# Altium schematic symbol library Embedded.SchLib: 20 symbols
Pins are listed as number, name and electrical type; pins without a type are passive.

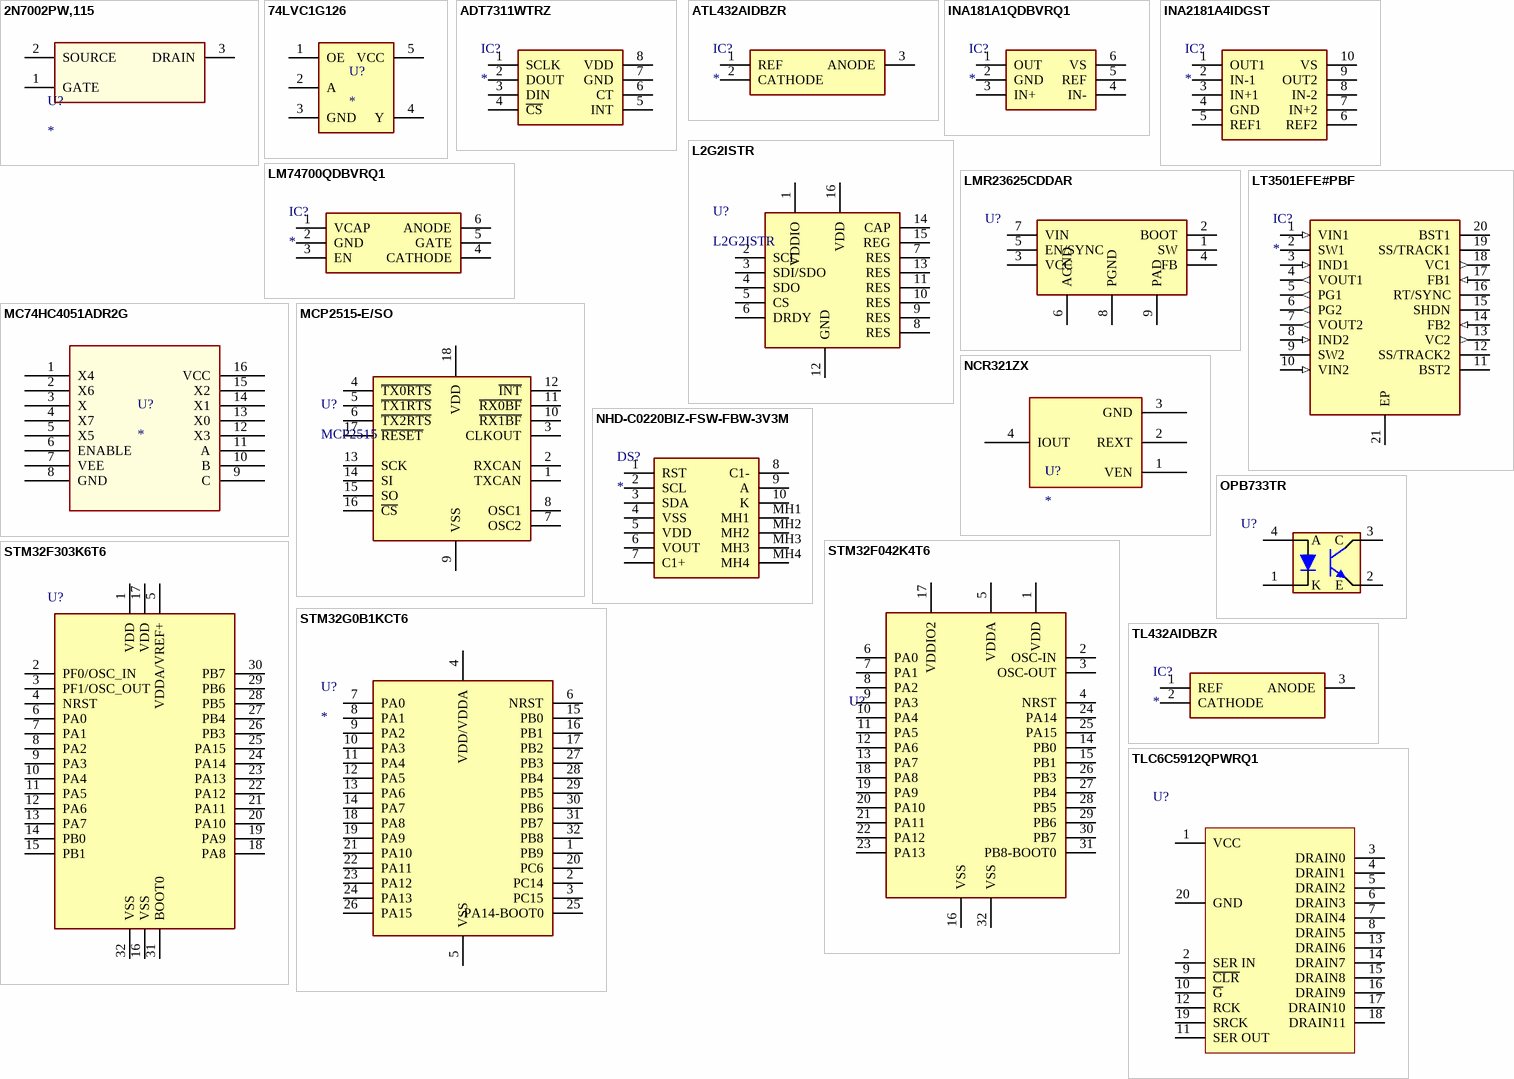
[diagram p0: symbols 2N7002PW,115 to TLC6C5912QPWRQ1]

## 2N7002PW,115
designator U?
N-Channel 60V 310mA (Ta) 260mW (Ta) Surface Mount SOT-323; MP: 2N7002PW,115; MF: Nexperia USA; SnapEDA_Link: https://www.snapeda.com/parts/2N7002PW,115/Nexperia%20USA%20Inc./view-part/2152859/?ref=snap; Value: *; Digi-Key_Part_Number: 1727-4793-1-ND; Package: SOT-323 Nexperia; ComponentLink1Description: Manufacturer name; ComponentLink1URL: *Nexperia USA Inc.; ComponentLink2Description: Manufacturer part number; ComponentLink2URL: PMF370XN,115; ComponentLink3Description: Supplier name; ComponentLink3URL: Digikey; ComponentLink4Description: Supplier part #; ComponentLink4URL: 1727-5422-2-ND
footprint SOT65P210X110-3N (MOSFET N-CH 60V 310MA SOT323)
pins: 1 GATE, 2 SOURCE, 3 DRAIN

## 74LVC1G126
designator U?
Buffer, Non-Inverting 1 Element 1 Bit per Element 3-State Output SC-74A; Manufacturer: Nexperia USA Inc.; Manufacturer Part Number: 74LVC1G126GV,125; Supplier: Digikey; Supplier Part Number: 1727-6066-1-ND; ComponentLink1Description: Datasheet; ComponentLink1URL: https://assets.nexperia.com/documents/data-sheet/74LVC1G126.pdf
footprint 74LVC1G126
pins: 1 OE, 2 A, 3 GND, 4 Y, 5 VCC

## ADT7311WTRZ
designator IC?
Integrated Circuit; Manufacturer_Name: Analog Devices; Manufacturer_Part_Number: ADT7311WTRZ; Datasheet Link: https://componentsearchengine.com/Datasheets/2/ADT7311WTRZ.pdf; Height: 1.75mm; Mouser Part Number: 584-ADT7311WTRZ; Mouser Price/Stock: https://www.mouser.com/Search/Refine.aspx?Keyword=584-ADT7311WTRZ
footprint SOIC127P600X175-8N
pins: 1 SCLK, 2 DOUT, 3 DIN, 4 ~{CS}, 5 INT, 6 CT, 7 GND, 8 VDD

## ATL432AIDBZR
designator IC?
Integrated Circuit; Manufacturer_Name: Texas Instruments; Manufacturer_Part_Number: ATL432AIDBZR; Datasheet Link: https://www.ti.com/lit/gpn/ATL432; Height: 1.12mm; Arrow Part Number: ATL432AIDBZR; Mouser Part Number: 595-ATL432AIDBZR; Mouser Price/Stock: https://www.mouser.co.uk/ProductDetail/Texas-Instruments/ATL432AIDBZR?qs=yajEpaT76uTSfuUtbT09pw%3D%3D
footprint SOT95P237X112-3N
pins: 1 REF, 2 CATHODE, 3 ANODE

## INA181A1QDBVRQ1
designator IC?
Integrated Circuit; Manufacturer_Name: Texas Instruments; Manufacturer_Part_Number: INA181A1QDBVRQ1; Datasheet Link: http://www.ti.com/lit/gpn/INA181-Q1; Height: 1.45mm; Arrow Part Number: INA181A1QDBVRQ1; Arrow Price/Stock: https://www.arrow.com/en/products/ina181a1qdbvrq1/texas-instruments; Mouser Part Number: 595-INA181A1QDBVRQ1; Mouser Price/Stock: https://www.mouser.co.uk/ProductDetail/Texas-Instruments/INA181A1QDBVRQ1?qs=EBDBlbfErPx7yYU5sEtaJQ%3D%3D
footprint SOT95P280X145-6N
pins: 1 OUT, 2 GND, 3 IN+, 4 IN-, 5 REF, 6 VS

## INA2181A4IDGST
designator IC?
Integrated Circuit; Manufacturer_Name: Texas Instruments; Manufacturer_Part_Number: INA2181A4IDGST; Datasheet Link: http://www.ti.com/lit/ds/symlink/ina2181.pdf; Height: 1.1mm; Arrow Part Number: INA2181A4IDGST; Arrow Price/Stock: https://www.arrow.com/en/products/ina2181a4idgst/texas-instruments; Mouser Part Number: 595-INA2181A4IDGST; Mouser Price/Stock: https://www.mouser.co.uk/ProductDetail/Texas-Instruments/INA2181A4IDGST?qs=j%252B1pi9TdxUbPFaAVw1%2FxVg%3D%3D
footprint SOP50P490X110-10N
pins: 1 OUT1, 2 IN-1, 3 IN+1, 4 GND, 5 REF1, 6 REF2, 7 IN+2, 8 IN-2, 9 OUT2, 10 VS

## L2G2ISTR
designator U?
MEMS MOTION SENSOR 2AXIS 16WFLGA; Manufacturer: ST; Manufacturer Part Number: L2G2ISTR; Supplier Part Number: 497-15702-1-ND; Supplier: Digikey; ComponentLink1Description: Datasheet; ComponentLink1URL: https://www.st.com/content/ccc/resource/technical/document/datasheet/6f/7d/9c/da/78/f2/42/1b/DM00150082.pdf/files/DM00150082.pdf/jcr:content/translations/en.DM00150082.pdf
footprint LGA16 - L2G2ISTR (LGA16 (2.3x2.3))
pins: 1 VDDIO, 2 SCL, 3 SDI/SDO, 4 SDO, 5 CS, 6 DRDY, 7 RES, 8 RES, 9 RES, 10 RES, 11 RES, 12 GND, 13 RES, 14 CAP, 15 REG, 16 VDD

## LM74700QDBVRQ1
designator IC?
Integrated Circuit; Manufacturer_Name: Texas Instruments; Manufacturer_Part_Number: LM74700QDBVRQ1; Datasheet Link: http://www.ti.com/lit/gpn/LM74700-Q1; Height: 1.45mm; Arrow Part Number: LM74700QDBVRQ1; Arrow Price/Stock: https://www.arrow.com/en/products/lm74700qdbvrq1/texas-instruments; Mouser Part Number: 595-LM74700QDBVRQ1; Mouser Price/Stock: https://www.mouser.co.uk/ProductDetail/Texas-Instruments/LM74700QDBVRQ1?qs=j%252B1pi9TdxUYjAZhGV8eSkQ%3D%3D
footprint SOT95P280X145-6N
pins: 1 VCAP, 2 GND, 3 EN, 4 CATHODE, 5 GATE, 6 ANODE

## LMR23625CDDAR
designator U?  (value not drawn)
36V 2.5A Buck Converter; Manufacturer Part Number: LMR23625CDDAR; Manufacturer: TI; Supplier Part Number: 296-47268-1-ND; Supplier: Digikey; ComponentLink1Description: Datasheet; ComponentLink1URL: https://www.ti.com/lit/ds/symlink/lmr23625.pdf?HQS=dis-dk-null-digikeymode-dsf-pf-null-wwe&ts=1623367278580
footprint LMR23625CDDAR (8-SO POWERPAD)
pins: 1 SW, 2 BOOT, 3 VCC, 4 FB, 5 EN/SYNC, 6 AGND, 7 VIN, 8 PGND, 9 PAD

## LT3501EFE#PBF
designator IC?
Integrated Circuit; Manufacturer_Name: Linear Technology; Manufacturer_Part_Number: LT3501EFE#PBF; Datasheet Link: http://cds.linear.com/docs/en/datasheet/3501fd.pdf; Height: 1.2mm; Arrow Part Number: LT3501EFE#PBF; Mouser Part Number: 584-LT3501EFE#PBF; Mouser Price/Stock: https://www.mouser.com/Search/Refine.aspx?Keyword=584-LT3501EFE%23PBF
footprint SOP65P640X120-21N
pins: 1 VIN1 (in), 2 SW1, 3 IND1 (in), 4 VOUT1 (out), 5 PG1 (out), 6 PG2 (out), 7 VOUT2 (out), 8 IND2 (in), 9 SW2, 10 VIN2 (in), 11 BST2, 12 SS/TRACK2, 13 VC2 (out), 14 FB2 (in), 15 SHDN, 16 RT/SYNC, 17 FB1 (in), 18 VC1 (out), 19 SS/TRACK1, 20 BST1, 21 EP (power)

## MC74HC4051ADR2G
designator U?
1 Circuit IC Switch 8:1 100Ohm 16-SOIC; Manufacturer Name: onsemi; Manufacturer Part Number: MC74HC4051ADR2G; Supplier Name: Digikey; Supplier Part Number: MC74HC4051ADR2GOSTR-ND
footprint MC74HC4051ADR2G (1 Circuit IC Switch 8:1 100Ohm 16-SOIC)
pins: 1 X4, 2 X6, 3 X, 4 X7, 5 X5, 6 ENABLE, 7 VEE (power), 8 GND (power), 9 C, 10 B, 11 A, 12 X3, 13 X0, 14 X1, 15 X2, 16 VCC (power)

## MCP2515-E/SO
designator U?, comment MCP2515
SPI->CAN Controller; Manufacturer Part Number: MCP2515-E/SO; Manufacturer: Microchip; Supplier Part Number: MCP2515-E/SO-ND; Supplier: Digikey; ComponentLink1Description: Datasheet; ComponentLink1URL: https://ww1.microchip.com/downloads/en/DeviceDoc/MCP2515-Stand-Alone-CAN-Controller-with-SPI-20001801J.pdf
footprint MCP2515-E/SO (18-SOIC 1.27mm pitch)
footprint MCP2515-I/ML (20-VFQFN Exposed Pad)
pins: 1 TXCAN, 2 RXCAN, 3 CLKOUT, 4 ~{TX0RTS}, 5 ~{TX1RTS}, 6 ~{TX2RTS}, 7 OSC2, 8 OSC1, 9 VSS, 10 ~{RX1BF}, 11 ~{RX0BF}, 12 ~{INT}, 13 SCK, 14 SI, 15 SO, 16 ~{CS}, 17 ~{RESET}, 18 VDD

## NCR321ZX
designator U?
IC LED DRVR LIN PWM 250MA SOT223; Manufacturer name: Nexperia USA Inc.; Manufacturer part number: NCR321ZX; Supplier 1: Digikey; ComponentLink1Description: Datasheet; ComponentLink1URL: https://assets.nexperia.com/documents/data-sheet/NCR320Z_NCR321Z.pdf; Supplier part number: 1727-8461-2-ND
footprint NCR321ZX LED driver (IC LED DRVR LIN PWM 250MA SOT223)
pins: 1 VEN, 2 REXT, 3 GND (power), 4 IOUT

## NHD-C0220BIZ-FSW-FBW-3V3M
designator DS?
Display; Manufacturer_Name: Newhaven Display; Manufacturer_Part_Number: NHD-C0220BIZ-FSW-FBW-3V3M; Datasheet Link: https://componentsearchengine.com/Datasheets/1/NHD-C0220BiZ-FSW-FBW-3V3M.pdf; Height: 7mm; Arrow Part Number: NHD-C0220BIZ-FSW-FBW-3V3M; Mouser Part Number: 763-C0220BIZ-FSW-FBW; Mouser Price/Stock: https://www.mouser.com/Search/Refine.aspx?Keyword=763-C0220BIZ-FSW-FBW
footprint NHDC0220BIZFSWFBW3V3M
pins: 1 RST, 2 SCL, 3 SDA, 4 VSS, 5 VDD, 6 VOUT, 7 C1+, 8 C1-, 9 A, 10 K, MH1, MH2, MH3, MH4

## OPB733TR
designator U?  (value not drawn)
Phototransistor; Manufacturer: TT Electronics/Optek Technology; Manufacturer Part Number: OPB733TR; Supplier: Digikey; Supplier Part Number: 365-1510-1-ND; ComponentLink1Description: Datasheet; ComponentLink1URL: https://www.ttelectronics.com/TTElectronics/media/ProductFiles/Optoelectronics/Datasheets/OPB733.pdf
footprint OPB733TR (Phototransistor)
pins: 1    K, 2 E, 3 C, 4    A

## STM32F042K4T6
designator U?  (value not drawn)
Microcontroller; Manufacturer Name: STMicroelectronics; Manufacturer Part Number: STM32F042K4T6; Supplier: Digikey; Supplier Part Number: 497-17856-ND; ComponentLink1Description: Datasheet; ComponentLink1URL: https://www.mouser.com/datasheet/2/389/stm32f042c4-956225.pdf
footprint QFP80P900X900X160-32N
pins: 1 VDD, 2 OSC-IN, 3 OSC-OUT, 4 NRST, 5 VDDA, 6 PA0, 7 PA1, 8 PA2, 9 PA3, 10 PA4, 11 PA5, 12 PA6, 13 PA7, 14 PB0, 15 PB1, 16 VSS, 17 VDDIO2, 18 PA8, 19 PA9, 20 PA10, 21 PA11, 22 PA12, 23 PA13, 24 PA14, 25 PA15, 26 PB3, 27 PB4, 28 PB5, 29 PB6, 30 PB7, 31 PB8-BOOT0, 32 VSS

## STM32F303K6T6
designator U?  (value not drawn)
Microcontroller; Manufacturer Part Number: STM32F303K6T6; Manufacturer: ST; Supplier Part Number: 497-STM32F303K6T6-ND; Supplier: Digikey; ComponentLink1Description: Datasheet; ComponentLink1URL: https://www.st.com/content/ccc/resource/technical/document/datasheet/group3/38/c6/ca/d1/f7/d5/4e/30/DM00092070/files/DM00092070.pdf/jcr:content/translations/en.DM00092070.pdf
footprint QFP80P900X900X160-32N
pins: 1 VDD, 2 PF0/OSC_IN, 3 PF1/OSC_OUT, 4 NRST, 5 VDDA/VREF+, 6 PA0, 7 PA1, 8 PA2, 9 PA3, 10 PA4, 11 PA5, 12 PA6, 13 PA7, 14 PB0, 15 PB1, 16 VSS, 17 VDD, 18 PA8, 19 PA9, 20 PA10, 21 PA11, 22 PA12, 23 PA13, 24 PA14, 25 PA15, 26 PB3, 27 PB4, 28 PB5, 29 PB6, 30 PB7, 31 BOOT0, 32 VSS

## STM32G0B1KCT6
designator U?
Manufacturer Part Number: STM32G0B1KCT6; Manufacturer: ST; Supplier Part Number: 511-STM32G0B1KCT6; Supplier: Mouser; ComponentLink1Description: Datasheet; ComponentLink1URL: https://www.mouser.ca/datasheet/2/389/stm32g0b1cc-2042221.pdf
footprint QFP80P900X900X160-32N
pins: 1 PB9, 2 PC14, 3 PC15, 4 VDD/VDDA, 5 VSS, 6 NRST, 7 PA0, 8 PA1, 9 PA2, 10 PA3, 11 PA4, 12 PA5, 13 PA6, 14 PA7, 15 PB0, 16 PB1, 17 PB2, 18 PA8, 19 PA9, 20 PC6, 21 PA10, 22 PA11, 23 PA12, 24 PA13, 25 PA14-BOOT0, 26 PA15, 27 PB3, 28 PB4, 29 PB5, 30 PB6, 31 PB7, 32 PB8

## TL432AIDBZR
designator IC?
Integrated Circuit; Manufacturer_Name: Texas Instruments; Manufacturer_Part_Number: TL432AIDBZR; Datasheet Link: http://www.ti.com/lit/gpn/tl432a; Height: 1.12mm; Arrow Part Number: TL432AIDBZR; Arrow Price/Stock: https://www.arrow.com/en/products/tl432aidbzr/texas-instruments; Mouser Part Number: 595-TL432AIDBZR; Mouser Price/Stock: https://www.mouser.co.uk/ProductDetail/Texas-Instruments/TL432AIDBZR?qs=odmYgEirbwzw%252BopYvrzCyA%3D%3D
footprint SOT95P237X112-3N
pins: 1 REF, 2 CATHODE, 3 ANODE

## TLC6C5912QPWRQ1
designator U?  (value not drawn)
LED Driver; Manufacturer Part Number: TLC6C5912QPWRQ1; Manufacturer: TI; ComponentLink1Description: Datasheet; ComponentLink1URL: https://www.ti.com/lit/ds/symlink/tlc6c5912-q1.pdf?HQS=dis-mous-null-mousermode-dsf-pf-null-wwe&ts=1616556766275&ref_url=https%253A%252F%252Fwww.mouser.ca%252F; Supplier Part Number: 595-TLC6C5912QPWRQ1; Supplier: Mouser
footprint TLC6C5912QPWRQ1 (Shift Register LED Driver)
pins: 1 VCC, 2 SER IN, 3 DRAIN0, 4 DRAIN1, 5 DRAIN2, 6 DRAIN3, 7 DRAIN4, 8 DRAIN5, 9 ~{CLR}, 10 ~{G}, 11 SER OUT, 12 RCK, 13 DRAIN6, 14 DRAIN7, 15 DRAIN8, 16 DRAIN9, 17 DRAIN10, 18 DRAIN11, 19 SRCK, 20 GND